# EAGLE library part MM74HCT04M (library Fairchild_By_element14_Batch_1)
Hex Inverter
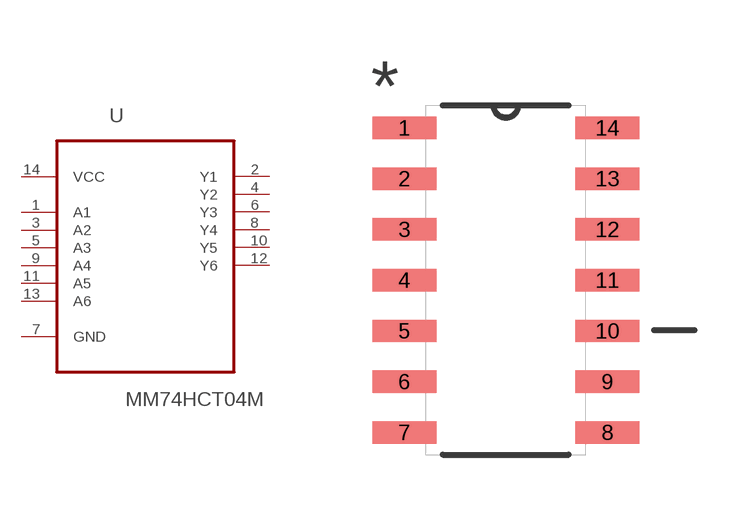
[diagram p311: symbol with the pads of SOIC127P600X175-14N; footprint SOIC127P600X175-14N]

Designator prefix U

## MM74HCT04M (MPN: MM74HCT04M; OC_FARNELL: 1013990; OC_NEWARK: 78K6041; PACKAGE: SOIC-14; SUPPLIER: Fairchild)  [SOIC127P600X175-14N]
1  A1  in
2  Y1  out
3  A2  in
4  Y2  out
5  A3  in
6  Y3  out
7  GND  pas
8  Y4  out
9  A4  in
10  Y5  out
11  A5  in
12  Y6  out
13  A6  in
14  VCC  pwr

## Footprint SOIC127P600X175-14N (pad centres in mm)
smd 1.6 x 0.559: 1 -2.54,3.81; 2 -2.54,2.54; 3 -2.54,1.27; 4 -2.54,0; 5 -2.54,-1.27; 6 -2.54,-2.54; 7 -2.54,-3.81; 8 2.54,-3.81; 9 2.54,-2.54; 10 2.54,-1.27; 11 2.54,0; 12 2.54,1.27; 13 2.54,2.54; 14 2.54,3.81